# EAGLE library part DS2482-800 (library exoteric-analytics-custom)
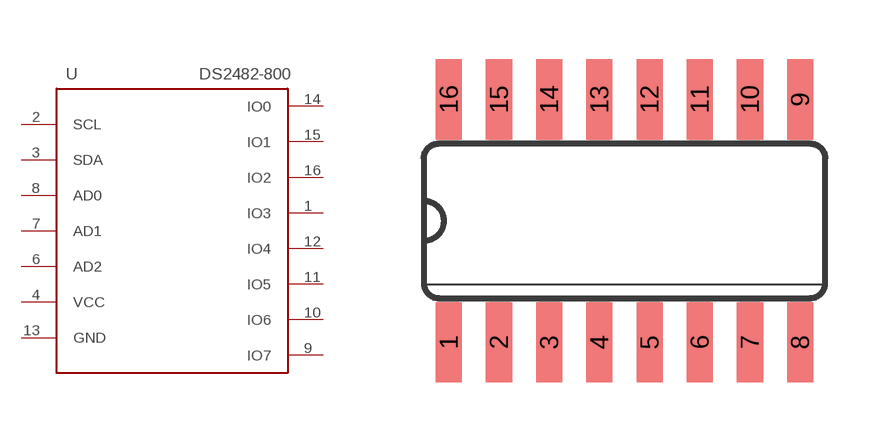
[diagram p1: symbol with the pads of SO16; footprint SO16]

Designator prefix -

## DS2482-800  [SO16]
1  IO3
2  SCL
3  SDA
4  VCC
6  AD2
7  AD1
8  AD0
9  IO7
10  IO6
11  IO5
12  IO4
13  GND
14  IO0
15  IO1
16  IO2

## Footprint SO16 (pad centres in mm)
Small Outline Package .150 SIOC Source: http://www.maxim-ic.com/package_drawings/21-0041B.pdf
smd 0.66 x 2.032: 1 -4.445,-3.073; 2 -3.175,-3.073; 3 -1.905,-3.073; 4 -0.635,-3.073; 5 0.635,-3.073; 6 1.905,-3.073; 7 3.175,-3.073; 8 4.445,-3.073; 9 4.445,3.073; 10 3.175,3.073; 11 1.905,3.073; 12 0.635,3.073; 13 -0.635,3.073; 14 -1.905,3.073; 15 -3.175,3.073; 16 -4.445,3.073